# EAGLE library part ATSAM3X8EA-AU (library IC-Microcontrollers)
MCU,SAM3X8C,84MHz,512KB Flash,LQFP144 ATSAM3X8EA-AU, 32 bit ARM Cortex M3 Microcontroller 84MHz 16 kB, 2 x 256 kB Flash, ROM, 64 + 32 kB RAM, USB 144-Pin LQFP Source: Datasheet <http://www.mouser.com/ds/2/36/doc11057s-74756.pdf>
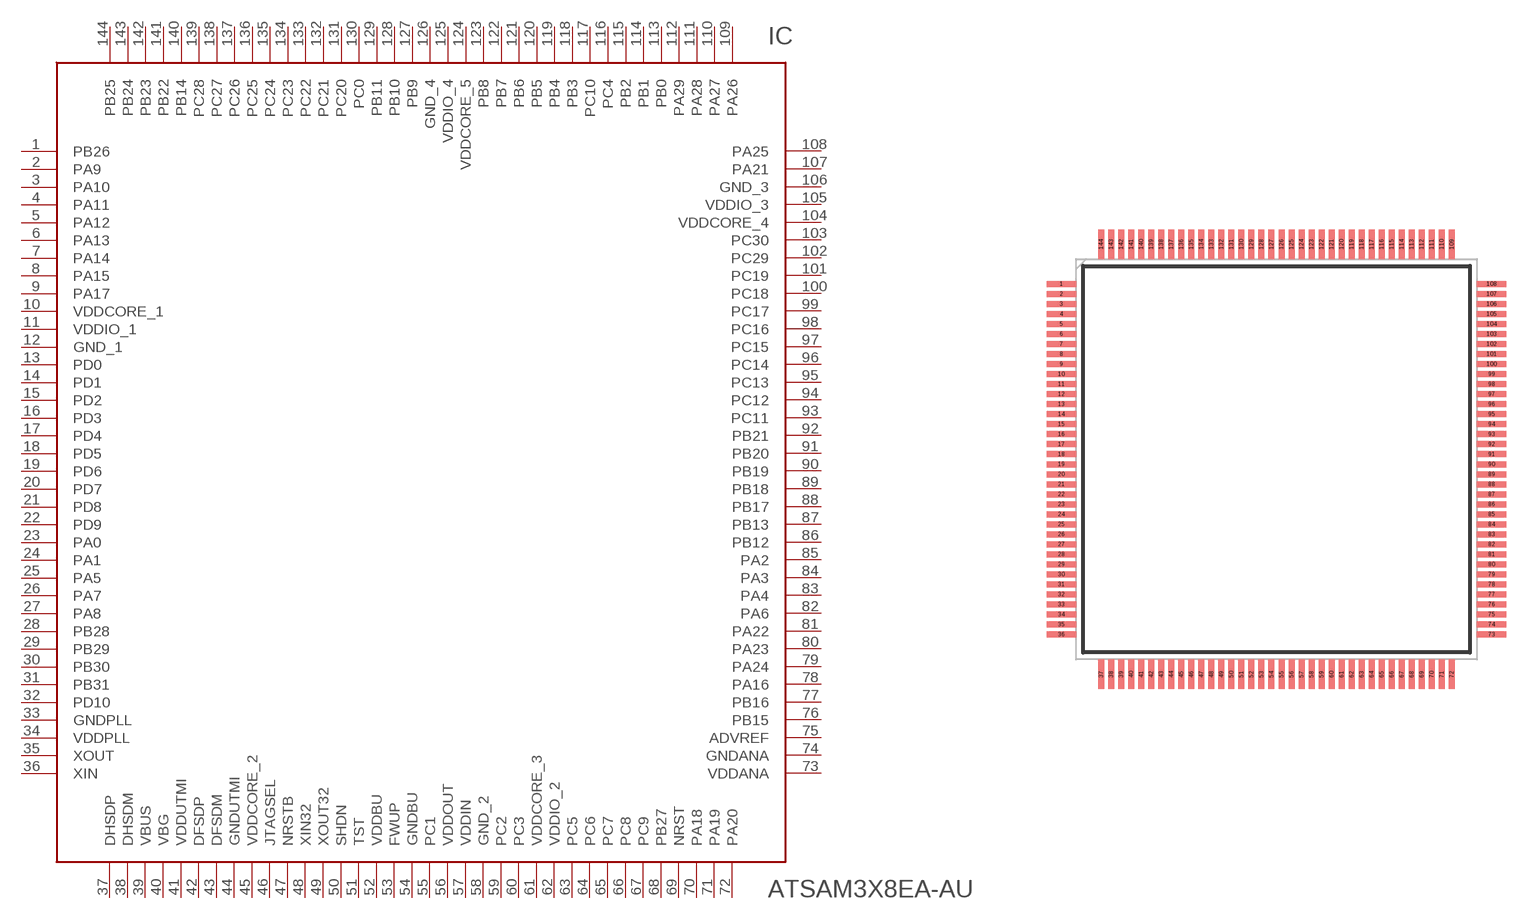
[diagram p1: symbol with the pads of QFP50P2200X2200X160-144N; footprint QFP50P2200X2200X160-144N]

Designator prefix IC

## ATSAM3X8EA-AU (DATASHEET: value; DESCRIPTION: MCU,SAM3X8C,84MHz,512KB Flash,LQFP144 ATSAM3X8EA-AU, 32 bit ARM Cortex M3 Microcontroller 84MHz 16 kB, 2 x 256 kB Flash, ROM, 64 + 32 kB RAM, USB 144-Pin LQFP; DIGIKEY-PART-NUMBER: value; LINK: value; MANUFACTURER: value; MPN: value; TECHNOLOGY: value; UNIT-PRICE: value)  [QFP50P2200X2200X160-144N]
1  PB26
2  PA9
3  PA10
4  PA11
5  PA12
6  PA13
7  PA14
8  PA15
9  PA17
10  VDDCORE_1  pwr
11  VDDIO_1  pwr
12  GND_1  pwr
13  PD0
14  PD1
15  PD2
16  PD3
17  PD4
18  PD5
19  PD6
20  PD7
21  PD8
22  PD9
23  PA0
24  PA1
25  PA5
26  PA7
27  PA8
28  PB28
29  PB29
30  PB30
31  PB31
32  PD10
33  GNDPLL  pwr
34  VDDPLL  pwr
35  XOUT  out
36  XIN  in
37  DHSDP
38  DHSDM
39  VBUS
40  VBG
41  VDDUTMI  pwr
42  DFSDP
43  DFSDM
44  GNDUTMI  pwr
45  VDDCORE_2  pwr
46  JTAGSEL
47  NRSTB  in
48  XIN32  in
49  XOUT32  out
50  SHDN
51  TST
52  VDDBU  pwr
53  FWUP
54  GNDBU  pwr
55  PC1
56  VDDOUT  pwr
57  VDDIN  pwr
58  GND_2  pwr
59  PC2
60  PC3
61  VDDCORE_3  pwr
62  VDDIO_2  pwr
63  PC5
64  PC6
65  PC7
66  PC8
67  PC9
68  PB27
69  NRST  in
70  PA18
71  PA19
72  PA20
73  VDDANA  pwr
74  GNDANA  pwr
75  ADVREF  in
76  PB15
77  PB16
78  PA16
79  PA24
80  PA23
81  PA22
82  PA6
83  PA4
84  PA3
85  PA2
86  PB12
87  PB13
88  PB17
89  PB18
90  PB19
91  PB20
92  PB21
93  PC11
94  PC12
95  PC13
96  PC14
97  PC15
98  PC16
99  PC17
100  PC18
101  PC19
102  PC29
103  PC30
104  VDDCORE_4  pwr
105  VDDIO_3  pwr
106  GND_3  pwr
107  PA21
108  PA25
109  PA26
110  PA27
111  PA28
112  PA29
113  PB0
114  PB1
115  PB2
116  PC4
117  PC10
118  PB3
119  PB4
120  PB5
121  PB6
122  PB7
123  PB8
124  VDDCORE_5  pwr
125  VDDIO_4  pwr
126  GND_4  pwr
127  PB9
128  PB10
129  PB11
130  PC0
131  PC20
132  PC21
133  PC22
134  PC23
135  PC24
136  PC25
137  PC26
138  PC27
139  PC28
140  PB14
141  PB22
142  PB23
143  PB24
144  PB25

## Footprint QFP50P2200X2200X160-144N (pad centres in mm)
144-lead LQFP
smd 1.475 x 0.3: 1 -10.738,8.75; 2 -10.738,8.25; 3 -10.738,7.75; 4 -10.738,7.25; 5 -10.738,6.75; 6 -10.738,6.25; 7 -10.738,5.75; 8 -10.738,5.25; 9 -10.738,4.75; 10 -10.738,4.25; 11 -10.738,3.75; 12 -10.738,3.25; 13 -10.738,2.75; 14 -10.738,2.25; 15 -10.738,1.75; 16 -10.738,1.25; 17 -10.738,0.75; 18 -10.738,0.25; 19 -10.738,-0.25; 20 -10.738,-0.75; 21 -10.738,-1.25; 22 -10.738,-1.75; 23 -10.738,-2.25; 24 -10.738,-2.75; 25 -10.738,-3.25; 26 -10.738,-3.75; 27 -10.738,-4.25; 28 -10.738,-4.75; 29 -10.738,-5.25; 30 -10.738,-5.75; 31 -10.738,-6.25; 32 -10.738,-6.75; 33 -10.738,-7.25; 34 -10.738,-7.75; 35 -10.738,-8.25; 36 -10.738,-8.75; 73 10.738,-8.75; 74 10.738,-8.25; 75 10.738,-7.75; 76 10.738,-7.25; 77 10.738,-6.75; 78 10.738,-6.25; 79 10.738,-5.75; 80 10.738,-5.25; 81 10.738,-4.75; 82 10.738,-4.25; 83 10.738,-3.75; 84 10.738,-3.25; 85 10.738,-2.75; 86 10.738,-2.25; 87 10.738,-1.75; 88 10.738,-1.25; 89 10.738,-0.75; 90 10.738,-0.25; 91 10.738,0.25; 92 10.738,0.75; 93 10.738,1.25; 94 10.738,1.75; 95 10.738,2.25; 96 10.738,2.75; 97 10.738,3.25; 98 10.738,3.75; 99 10.738,4.25; 100 10.738,4.75; 101 10.738,5.25; 102 10.738,5.75; 103 10.738,6.25; 104 10.738,6.75; 105 10.738,7.25; 106 10.738,7.75; 107 10.738,8.25; 108 10.738,8.75
smd 0.3 x 1.475: 37 -8.75,-10.738; 38 -8.25,-10.738; 39 -7.75,-10.738; 40 -7.25,-10.738; 41 -6.75,-10.738; 42 -6.25,-10.738; 43 -5.75,-10.738; 44 -5.25,-10.738; 45 -4.75,-10.738; 46 -4.25,-10.738; 47 -3.75,-10.738; 48 -3.25,-10.738; 49 -2.75,-10.738; 50 -2.25,-10.738; 51 -1.75,-10.738; 52 -1.25,-10.738; 53 -0.75,-10.738; 54 -0.25,-10.738; 55 0.25,-10.738; 56 0.75,-10.738; 57 1.25,-10.738; 58 1.75,-10.738; 59 2.25,-10.738; 60 2.75,-10.738; 61 3.25,-10.738; 62 3.75,-10.738; 63 4.25,-10.738; 64 4.75,-10.738; 65 5.25,-10.738; 66 5.75,-10.738; 67 6.25,-10.738; 68 6.75,-10.738; 69 7.25,-10.738; 70 7.75,-10.738; 71 8.25,-10.738; 72 8.75,-10.738; 109 8.75,10.738; 110 8.25,10.738; 111 7.75,10.738; 112 7.25,10.738; 113 6.75,10.738; 114 6.25,10.738; 115 5.75,10.738; 116 5.25,10.738; 117 4.75,10.738; 118 4.25,10.738; 119 3.75,10.738; 120 3.25,10.738; 121 2.75,10.738; 122 2.25,10.738; 123 1.75,10.738; 124 1.25,10.738; 125 0.75,10.738; 126 0.25,10.738; 127 -0.25,10.738; 128 -0.75,10.738; 129 -1.25,10.738; 130 -1.75,10.738; 131 -2.25,10.738; 132 -2.75,10.738; 133 -3.25,10.738; 134 -3.75,10.738; 135 -4.25,10.738; 136 -4.75,10.738; 137 -5.25,10.738; 138 -5.75,10.738; 139 -6.25,10.738; 140 -6.75,10.738; 141 -7.25,10.738; 142 -7.75,10.738; 143 -8.25,10.738; 144 -8.75,10.738